# EAGLE library part JSMS (library 2010.09.20)
Sega SG-1000, SC-3000, Mark III, Japanese Master System cartridge port Note that the SG-1000 and SC-3000 have the same connector worldwide. The function of pin B9 is uncertain at present. It may be CE, Refresh or NC. Korean variants such as the Gam*Boy have the same connector. description taken from SMSPower.org µ 2011.01.17 D Lue Choy
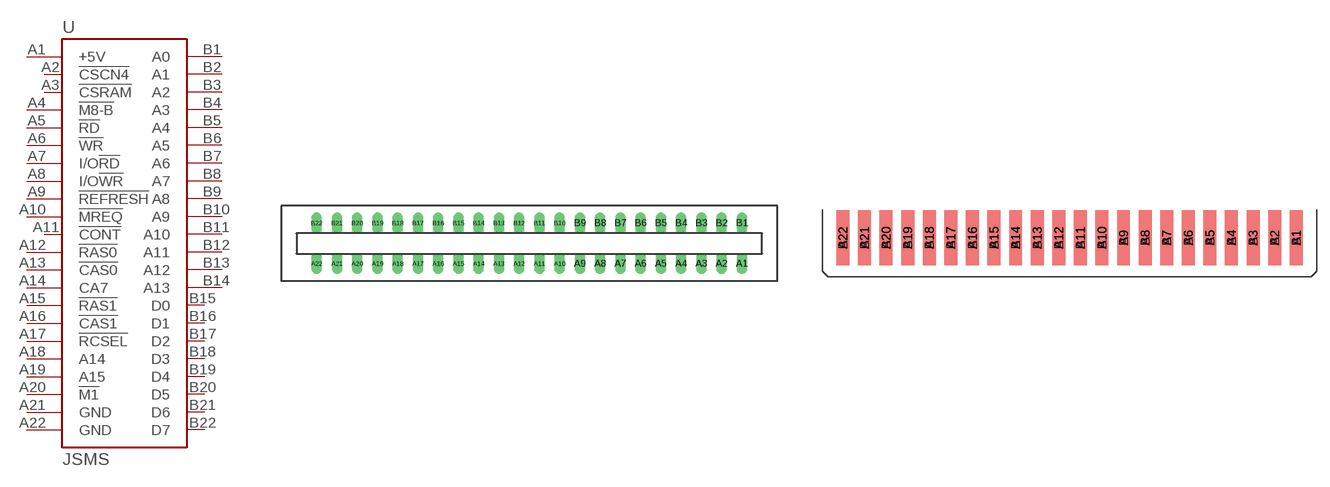
[diagram p8: symbol with the pads of CARDEDGE44F; footprints CARDEDGE44F, CARDEDGE44M]

Designator prefix -

## JSMSF  [CARDEDGE44F]
A1  +5V  sup
A2  !CSCN4
A3  !CSRAM
A4  !M8-B
A5  !RD
A6  !WR
A7  I/O!RD
A8  I/O!WR
A9  !REFRESH
A10  !MREQ
A11  !CONT
A12  !RAS0
A13  !CAS0
A14  CA7
A15  !RAS1
A16  !CAS1
A17  !RCSEL
A18  A14
A19  A15
A20  !M1
A21  GND  sup
A22  GND  sup
B1  A0
B2  A1
B3  A2
B4  A3
B5  A4
B6  A5
B7  A6
B8  A7
B9  A8
B10  A9
B11  A10
B12  A11
B13  A12
B14  A13
B15  D0
B16  D1
B17  D2
B18  D3
B19  D4
B20  D5
B21  D6
B22  D7

## JSMSM  [CARDEDGE44M]
Pads as for CARDEDGE44F

## Footprint CARDEDGE44F (pad centres in mm)
44 pin 0.1" cardedge connector derived from ISA-16 found in Eagle's con-pc.lbr. µ2011.01.17 D Lue Choy
drill 0.8 long: A1 26.67,-2.54; A2 24.13,-2.54; A3 21.59,-2.54; A4 19.05,-2.54; A5 16.51,-2.54; A6 13.97,-2.54; A7 11.43,-2.54; A8 8.89,-2.54; A9 6.35,-2.54; A10 3.81,-2.54; A11 1.27,-2.54; A12 -1.27,-2.54; A13 -3.81,-2.54; A14 -6.35,-2.54; A15 -8.89,-2.54; A16 -11.43,-2.54; A17 -13.97,-2.54; A18 -16.51,-2.54; A19 -19.05,-2.54; A20 -21.59,-2.54; A21 -24.13,-2.54; A22 -26.67,-2.54; B1 26.67,2.54; B2 24.13,2.54; B3 21.59,2.54; B4 19.05,2.54; B5 16.51,2.54; B6 13.97,2.54; B7 11.43,2.54; B8 8.89,2.54; B9 6.35,2.54; B10 3.81,2.54; B11 1.27,2.54; B12 -1.27,2.54; B13 -3.81,2.54; B14 -6.35,2.54; B15 -8.89,2.54; B16 -11.43,2.54; B17 -13.97,2.54; B18 -16.51,2.54; B19 -19.05,2.54; B20 -21.59,2.54; B21 -24.13,2.54; B22 -26.67,2.54

## Footprint CARDEDGE44M (pad centres in mm)
44 pin 0.1" cardedge connector derived from 8-bit CARD IBM/PC-AT found in Eagle's con-pc.lbr. µ2011.01.17 D Lue Choy
smd 1.524 x 6.477: A1 0,5.08; A2 -2.54,5.08; A3 -5.08,5.08; A4 -7.62,5.08; A5 -10.16,5.08; A6 -12.7,5.08; A7 -15.24,5.08; A8 -17.78,5.08; A9 -20.32,5.08; A10 -22.86,5.08; A11 -25.4,5.08; A12 -27.94,5.08; A13 -30.48,5.08; A14 -33.02,5.08; A15 -35.56,5.08; A16 -38.1,5.08; A17 -40.64,5.08; A18 -43.18,5.08; A19 -45.72,5.08; A20 -48.26,5.08; A21 -50.8,5.08; A22 -53.34,5.08
smd 1.524 x 6.477 bottom: B1 0,5.08; B2 -2.54,5.08; B3 -5.08,5.08; B4 -7.62,5.08; B5 -10.16,5.08; B6 -12.7,5.08; B7 -15.24,5.08; B8 -17.78,5.08; B9 -20.32,5.08; B10 -22.86,5.08; B11 -25.4,5.08; B12 -27.94,5.08; B13 -30.48,5.08; B14 -33.02,5.08; B15 -35.56,5.08; B16 -38.1,5.08; B17 -40.64,5.08; B18 -43.18,5.08; B19 -45.72,5.08; B20 -48.26,5.08; B21 -50.8,5.08; B22 -53.34,5.08